# Altium schematic symbol library intersil-video.SchLib: 1 symbol
Pins are listed as number, name and electrical type; pins without a type are passive.

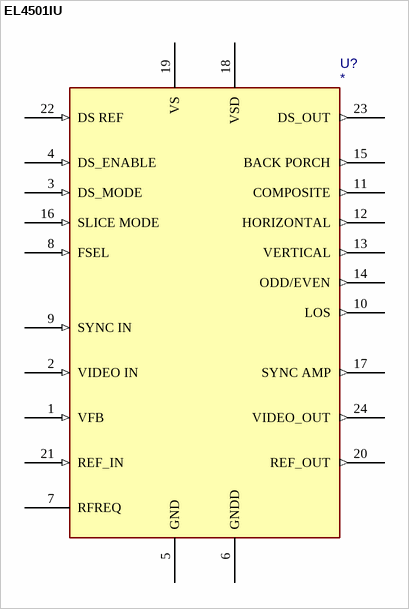
[diagram p0: symbol EL4501IU]

## EL4501IU
designator U?
Vide Front End; Value: EL4501IU; PN: *; Package: *; ExtraInfo: *
footprint QSOP24-M (Quarter Size Outline Plastic Package)
pins: 1 VFB (in), 2 VIDEO IN (in), 3 DS_MODE (in), 4 DS_ENABLE (in), 5 GND (power), 6 GNDD (power), 7 RFREQ, 8 FSEL (in), 9 SYNC IN (in), 10 LOS (out), 11 COMPOSITE (out), 12 HORIZONTAL (out), 13 VERTICAL (out), 14 ODD/EVEN (out), 15 BACK PORCH (out), 16 SLICE MODE (in), 17 SYNC AMP (out), 18 VSD (power), 19 VS (power), 20 REF_OUT (out), 21 REF_IN (in), 22 DS REF (in), 23 DS_OUT (out), 24 VIDEO_OUT (out)